# Altium schematic symbol library LED_Validation_Sch_Lib.SchLib: 14 symbols
Pins are listed as number, name and electrical type; pins without a type are passive.

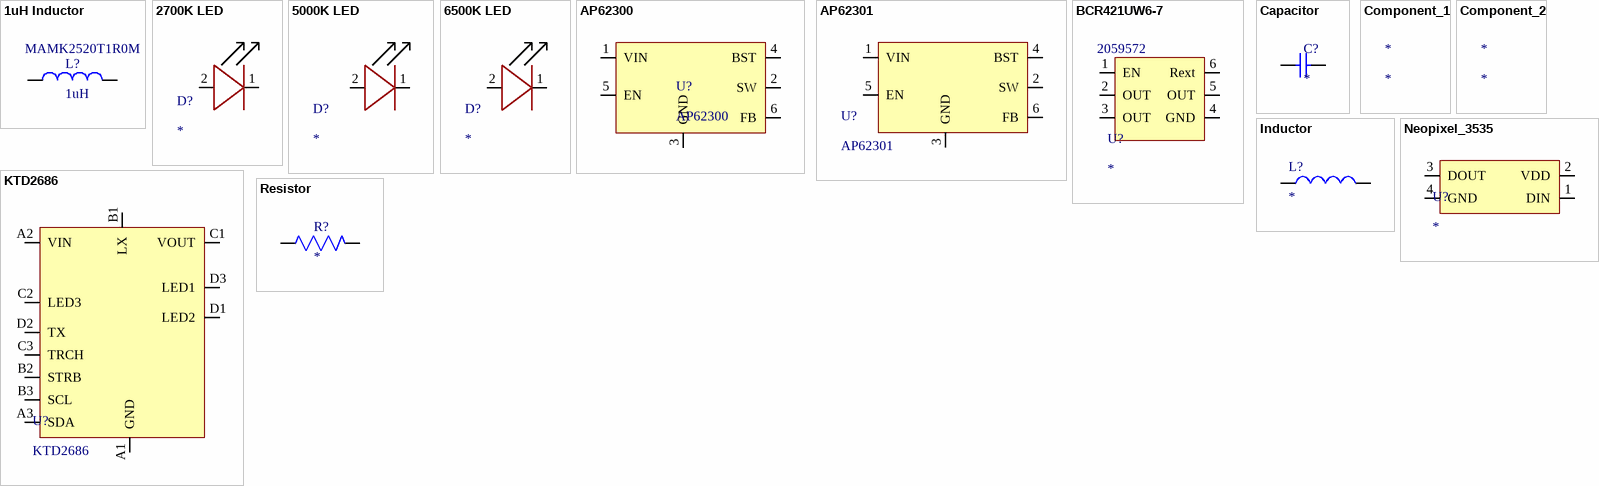
[diagram p0: symbols 1uH Inductor to Resistor]

## 1uH Inductor
designator L?, comment 1uH  Supplier Part Number 1: MAMK2520T1R0M
1ÂµH Shielded Wirewound Inductor 2.7A 59mOhm Max 1008 (2520 Metric); MF: Taiyo Yuden; Value: *; SnapEDA_Link: https://www.snapeda.com/parts/MAMK2520T1R0M/Taiyo%20Yuden/view-part/1499664/?ref=snap; DigiKey-Purchase-URL: https://snapeda.com/shop?store=DigiKey&id=1499664; Package: 2520 Taiyo Yuden; MP: MAMK2520T1R0M; Digi-Key_Part_Number: 587-3225-1-ND; Supplier 1: Avnet
footprint INDC2520X120N
footprint INDC2520X120N
pins: 1, 2

## 2700K LED
designator D?
2700k LED; Supplier 1: Digikey; Supplier Part Number 1: 475-GWPLLRA1.CM-M3M8-XX58-1-700-R18CT-ND
footprint 2424 Package
pins: 1, 2

## 5000K LED
designator D?
5000k LED; Supplier 1: Digikey; Supplier Part Number 1: 475-GWPLLRA1.CM-M7N2-XX51-1-700-R18CT-ND
footprint 2424 Package
pins: 1, 2

## 6500K LED
designator D?
6500k LED; Supplier 1: Digikey; Supplier Part Number 1: 475-GWPLLRA1.CM-M7N2-XX53-1-700-R18CT-ND
footprint 2424 Package
pins: 1, 2

## AP62300
designator U?
Buck Converter; Manufacturer: Diodes; Manufacturer Part Number: AP62300TWU-7; Supplier 1: Avnet; RoHS: Yes; Category: Voltage Regulators - Switching; Stock 1: 9000; Pricing 1: 3000=0.12628, 6000=0.12176, 12000=0.11809, 18000=0.11465, 24000=0.11034, 30000=0.10861, 300000=0.10689 (USD); ComponentLink1URL: https://www.diodes.com/assets/Datasheets/AP62300_AP62301_AP62300T.pdf?src-supplier=Digikey; ComponentLink1Description: https://www.diodes.com/assets/Datasheets/AP62300_AP62301_AP62300T.pdf?src-supplier=Digikey; ComponentLink2URL: https://datasheet.octopart.com/AP62300TWU-7-Diodes-Inc.-datasheet-149521341.pdf?src-supplier=Newark; ComponentLink2Description: https://datasheet.octopart.com/AP62300TWU-7-Diodes-Inc.-datasheet-149521341.pdf?src-supplier=Newark; Supplier Part Number 1: AP62300TWU-7
pins: 1 VIN, 2 SW, 3 GND, 4 BST, 5 EN, 6 FB

## AP62301
designator U?
Buck Converter / SOT-563
footprint AP62301 (Buck Converter)
pins: 1 VIN, 2 SW, 3 GND, 4 BST, 5 EN, 6 FB

## BCR421UW6-7
designator U?  Supplier Part Number 1: 2059572
LED Driver; Supplier 1: Future Electronics
footprint SOT95P280X140-6N
pins: 1 EN, 2 OUT, 3 OUT, 4 GND, 5 OUT, 6 Rext

## Capacitor
designator C?
pins: 1, 2

## Component_1
designator *

## Component_2
designator *

## Inductor
designator L?
pins: 1, 2

## KTD2686
designator U?
LED Driver
footprint KTD2686
pins: A1 GND, A2 VIN, A3 SDA, B1 LX, B2 STRB, B3 SCL, C1 VOUT, C2 LED3, C3 TRCH, D1 LED2, D2 TX, D3 LED1

## Neopixel_3535
designator U?
footprint Neopixel
pins: 1 DIN, 2 VDD, 3 DOUT, 4 GND

## Resistor
designator R?
pins: 1, 2